# Altium footprint library IC_Texas_Instruments_BQ294700DSGR_eec_IPC_B.PcbLib: 1 footprints
Each footprint in its own frame and in the unit in brackets; x right, y up, seen from the top. Pads: shape width x height; smd on the part's side, far side on the other; paste and mask are expansions set on the pad; w line width, h text height; cw(c..) or ccw(c..) is an arc to the next point about the centre after c.
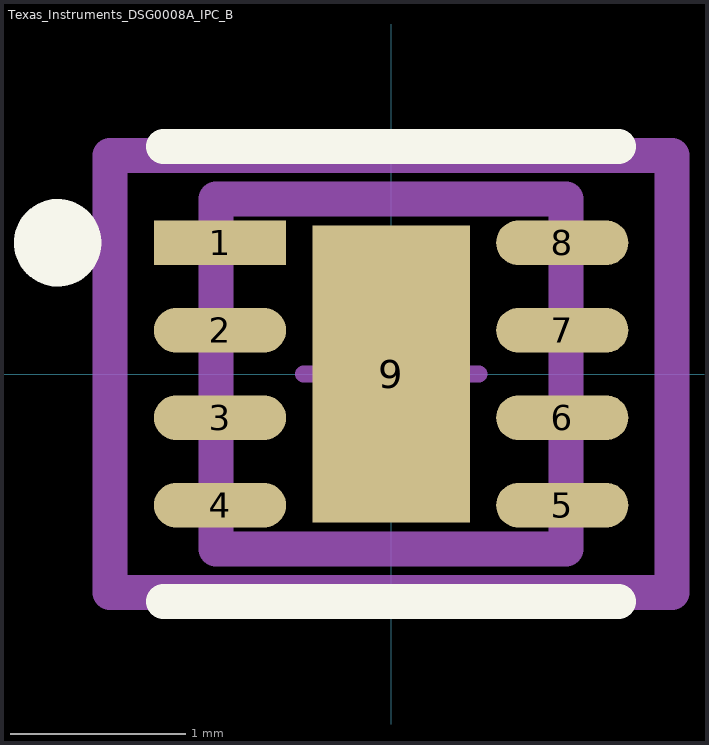
[diagram p0: the footprint, top view; thin cyan lines are the x and y axes]

## Texas_Instruments_DSG0008A_IPC_B [mm]
pads (9):
  rect 0.756x0.257 smd paste+0 mask+0: 1(-0.978,0.75)
  rrect100% 0.756x0.257 smd paste+0 mask+0: 2(-0.978,0.25) 3(-0.978,-0.25) 4(-0.978,-0.75) 5(0.978,-0.75) 6(0.978,-0.25) 7(0.978,0.25) 8(0.978,0.75)
  rect 0.9x1.7 smd paste-1000 mask+0: 9(0,0)
Top Overlay:
  circle w0.25: c-1.906,0.75 r0.125
  lines w0.2: -1.3,-1.3 1.3,-1.3 ; -1.3,1.3 1.3,1.3
Top Paste:
  rectangle: -0.239,-0.639 0.239,0.639
Mechanical 10:
  lines w0.2: -1.606,-1.25 1.606,-1.25 1.606,1.25 -1.606,1.25 -1.606,-1.25
  text ".Designator" at 0,0 h1
Mechanical 12:
  lines w0.2: -1,-1 1,-1 1,1 -1,1 -1,-1
Mechanical 15:
  lines w0.1: -0.5,0 0.5,0 ; 0,-0.5 0,0.5
  lines w0.2: -1.606,-1.25 1.606,-1.25 1.606,1.25 -1.606,1.25 -1.606,-1.25
3D body "IC_Texas_Instruments_BQ294700DSGR_eec.STEP": height 0.25, standoff 0, extent -1.606,-1.25 1.606,1.25